# EAGLE library part CA0612KRX7R7BB104 (library TAStm32_v4)
Phycomp Capacitor Array 100nF 16V dc +/-10% 4-way X7R Dielectric 0612 (1632M) Package C-Array Series Surface Mount Source: Datasheet <https://www.arrow.com/en/products/ca0612krx7r7bb104/yageo>
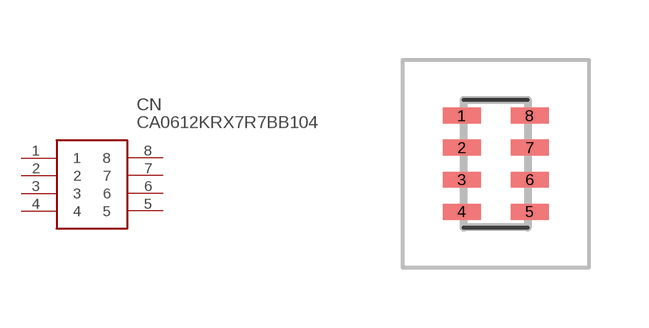
[diagram p5: symbol with the pads of CA0612KRX7R7BB104; footprint CA0612KRX7R7BB104]

Designator prefix CN

## CA0612KRX7R7BB104 (DESCRIPTION: Phycomp Capacitor Array 100nF 16V dc +/-10% 4-way X7R Dielectric 0612 (1632M) Package C-Array Series Surface Mount; HEIGHT: 0mm; MANUFACTURER_NAME: YAGEO (PHYCOMP); MANUFACTURER_PART_NUMBER: CA0612KRX7R7BB104; MOUSER_PART_NUMBER: 603-CA612KRX7R7BB104; MOUSER_PRICE-STOCK: https://www.mouser.co.uk/ProductDetail/Yageo/CA0612KRX7R7BB104/?qs=AJwqpy2c0%252B9CH0DBF0MBBw%3D%3D)  [CA0612KRX7R7BB104]
1  1
2  2
3  3
4  4
5  5
6  6
7  7
8  8

## Footprint CA0612KRX7R7BB104 (pad centres in mm)
CA0612KRX7R7BB104
smd 0.95 x 0.4: 1 -0.85,1.2; 2 -0.85,0.4; 3 -0.85,-0.4; 4 -0.85,-1.2; 5 0.85,-1.2; 6 0.85,-0.4; 7 0.85,0.4; 8 0.85,1.2